# EAGLE library part PLCC-6-RGBLED (library BW-Active)
3535 RGB LED Individual anodes/cathodes
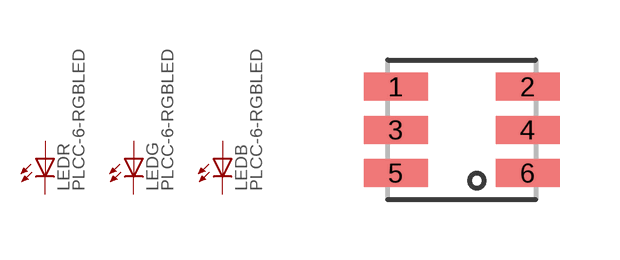
[diagram p50: symbol with the pads of PLCC-6; footprint PLCC-6]

Designator prefix LED; gates R=LED G=LED B=LED

## PLCC-6-RGBLED  [PLCC-6]
1  R:A  pas
2  R:C  pas
3  G:A  pas
4  G:C  pas
5  B:A  pas
6  B:C  pas

## Footprint PLCC-6 (pad centres in mm)
smd 1.6 x 0.7: 1 -1.65,1.08; 2 1.65,1.08; 3 -1.65,0; 4 1.65,0; 5 -1.65,-1.08; 6 1.65,-1.08